# Altium footprint library PcbLib1.PcbLib: 1 footprints
Each footprint in its own frame and in the unit in brackets; x right, y up, seen from the top. Pads: shape width x height; smd on the part's side, far side on the other; paste and mask are expansions set on the pad; w line width, h text height; cw(c..) or ccw(c..) is an arc to the next point about the centre after c.
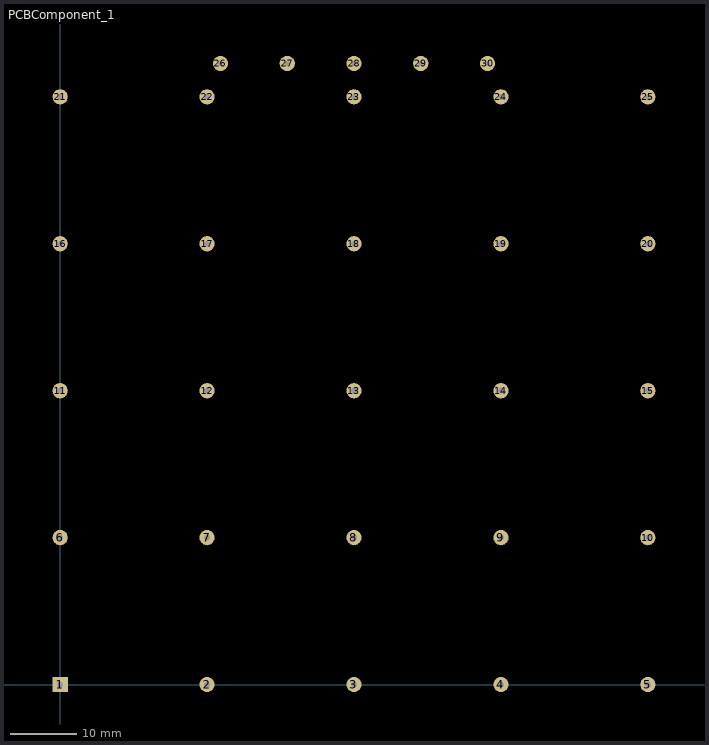
[diagram p0: the footprint, top view; thin cyan lines are the x and y axes]

## PCBComponent_1 [mil]
pads (30):
  rect 90x90 hole 35: 1(0,0)
  round 90 hole 35: 2(866.14,0) 3(1732.28,0) 4(2598.43,0) 5(3464.57,0) 6(0,866.14) 7(866.14,866.14) 8(1732.28,866.14) 9(2598.43,866.14) 10(3464.57,866.14) 11(0,1732.28) 12(866.14,1732.28) 13(1732.28,1732.28) 14(2598.43,1732.28) 15(3464.57,1732.28) 16(0,2598.43) 17(866.14,2598.43) 18(1732.28,2598.43) 19(2598.43,2598.43) 20(3464.57,2598.43) 21(0,3464.57) 22(866.14,3464.57) 23(1732.28,3464.57) 24(2598.43,3464.57) 25(3464.57,3464.57)
  round 90 hole 30: 26(944.88,3661.42) 27(1338.58,3661.42) 28(1732.28,3661.42) 29(2125.98,3661.42) 30(2519.68,3661.42)